# EAGLE library part ARDUNIO_NANO (library StepDance)
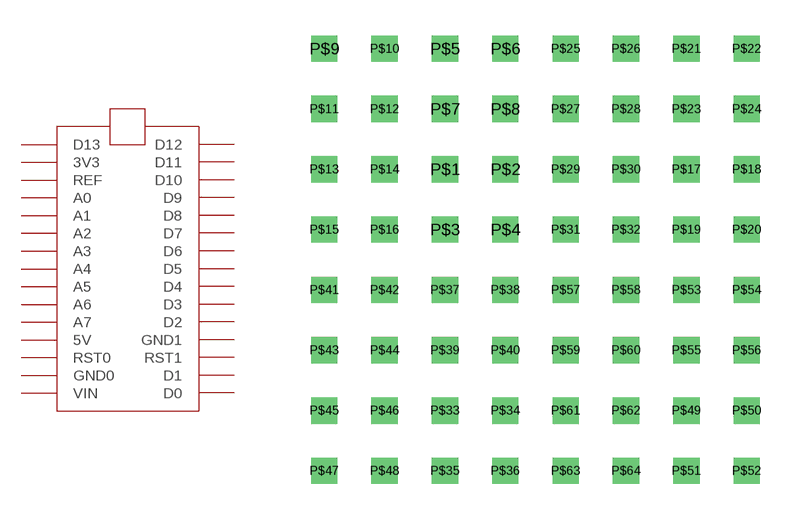
[diagram p0: symbol with the pads of PINS; footprint PINS]

Designator prefix -

## ARDUNIO_NANO  [PINS]
P$1  3V3
P$2  5V
P$3  A0
P$4  A1
P$5  A2
P$6  A3
P$7  A4
P$8  A5
P$9  A6
P$10  A7
P$11  D0
P$12  D1
P$13  D2
P$14  D3
P$15  D4
P$16  D5
P$17  D6
P$18  D7
P$19  D8
P$20  D9
P$21  D10
P$22  D11
P$23  D12
P$24  D13
P$25  GND0
P$26  GND1
P$27  REF
P$28  RST0
P$29  RST1
P$30  VIN

## Footprint PINS (pad centres in mm)
drill 0.6 square: P$1 0,0; P$2 2.54,0; P$3 0,-2.54; P$4 2.54,-2.54; P$5 0,5.08; P$6 2.54,5.08; P$7 0,2.54; P$8 2.54,2.54; P$9 -5.08,5.08; P$10 -2.54,5.08; P$11 -5.08,2.54; P$12 -2.54,2.54; P$13 -5.08,0; P$14 -2.54,0; P$15 -5.08,-2.54; P$16 -2.54,-2.54; P$17 10.16,0; P$18 12.7,0; P$19 10.16,-2.54; P$20 12.7,-2.54; P$21 10.16,5.08; P$22 12.7,5.08; P$23 10.16,2.54; P$24 12.7,2.54; P$25 5.08,5.08; P$26 7.62,5.08; P$27 5.08,2.54; P$28 7.62,2.54; P$29 5.08,0; P$30 7.62,0; P$31 5.08,-2.54; P$32 7.62,-2.54; P$33 0,-10.16; P$34 2.54,-10.16; P$35 0,-12.7; P$36 2.54,-12.7; P$37 0,-5.08; P$38 2.54,-5.08; P$39 0,-7.62; P$40 2.54,-7.62; P$41 -5.08,-5.08; P$42 -2.54,-5.08; P$43 -5.08,-7.62; P$44 -2.54,-7.62; P$45 -5.08,-10.16; P$46 -2.54,-10.16; P$47 -5.08,-12.7; P$48 -2.54,-12.7; P$49 10.16,-10.16; P$50 12.7,-10.16; P$51 10.16,-12.7; P$52 12.7,-12.7; P$53 10.16,-5.08; P$54 12.7,-5.08; P$55 10.16,-7.62; P$56 12.7,-7.62; P$57 5.08,-5.08; P$58 7.62,-5.08; P$59 5.08,-7.62; P$60 7.62,-7.62; P$61 5.08,-10.16; P$62 7.62,-10.16; P$63 5.08,-12.7; P$64 7.62,-12.7